# EAGLE library part 292227-6 (library te)
1.5mm AMP Mini CT Connectors
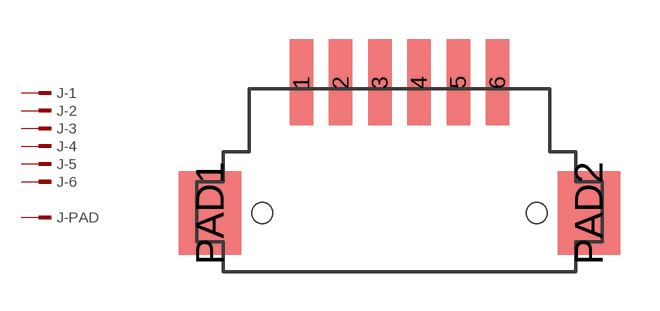
[diagram p3: symbol with the pads of 292227-6; footprint 292227-6]

Designator prefix J; gates -1=MPIN -2=MPIN -3=MPIN -4=MPIN -5=MPIN -6=MPIN -PAD=MPIN

## 292227-6 (DISTRIBUTOR: Digikey; OC_DIGIKEY: A98699CT-ND; ORDER_CODE: A98699CT-ND)  [292227-6]
1  -1:1  pas
2  -2:1  pas
3  -3:1  pas
4  -4:1  pas
5  -5:1  pas
6  -6:1  pas
PAD1  -PAD:1  pas
PAD2  -PAD:1  pas

## Footprint 292227-6 (pad centres in mm)
smd 0.9 x 3.3: 1 -3.75,5; 2 -2.25,5; 3 -0.75,5; 4 0.75,5; 5 2.25,5; 6 3.75,5
smd 2.4 x 3.2: PAD1 -7.25,0; PAD2 7.25,0
hole 0.8 at 5.25,0
hole 0.8 at -5.25,0